# EAGLE library part ACPL-C87A (library IntegratedLib)
Sesor de tensão opticamente isolado (Sigma-Delta) (SSO-08)
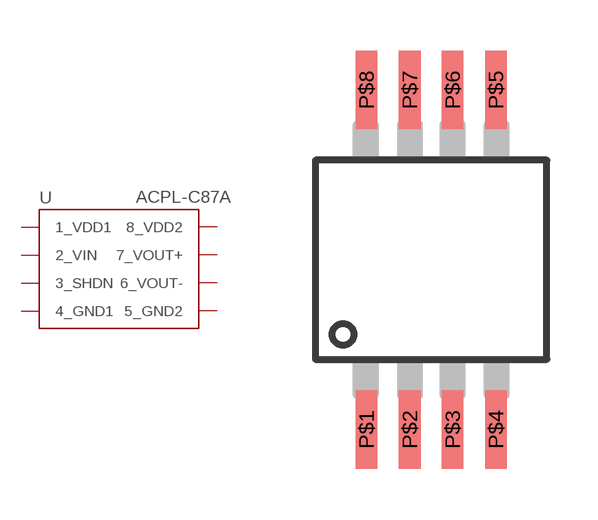
[diagram p0: symbol with the pads of SSO-8; footprint SSO-8]

Designator prefix U

## ACPL-C87A (FABRICANTE: BROADCOM; PARTNUMBER: ACPL-C87A; TIPO: CIRCUITO INTEGRADO)  [SSO-8]
P$1  1_VDD1
P$2  2_VIN
P$3  3_SHDN
P$4  4_GND1
P$5  5_GND2
P$6  6_VOUT-
P$7  7_VOUT+
P$8  8_VDD2

## Footprint SSO-8 (pad centres in mm)
smd 0.64 x 2.3: P$1 -1.905,-5; P$2 -0.63,-5; P$3 0.63,-5; P$4 1.905,-5; P$5 1.905,5; P$6 0.63,5; P$7 -0.63,5; P$8 -1.905,5